# EAGLE library part DUAL_GP_TRANSISTOR (library Eagle_CAD_parts)
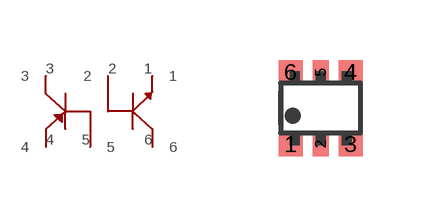
[diagram p2: symbol with the pads of SOT-363; footprint SOT-363]

Designator prefix -

## DUAL_GP_TRANSISTOR  [SOT-363]
1  1
2  2
3  3
4  4
5  5
6  6

## Footprint SOT-363 (pad centres in mm)
smd 0.6 x 0.6: 1 0.52,0.37; 3 2.02,0.37; 4 2.02,2.17; 6 0.52,2.17
smd 0.4 x 0.6: 2 1.27,0.37; 5 1.27,2.17